# EAGLE library part TUSB320 (library breakouts)
TUSB320 USB Type-C Configuration Channel Logic and Port Control
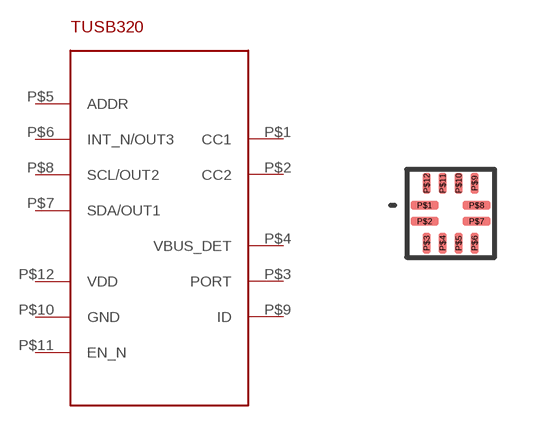
[diagram p2: symbol with the pads of X2QFN; footprint X2QFN]

Designator prefix -

## TUSB320XQFN  [X2QFN]
P$1  CC1
P$2  CC2
P$3  PORT
P$4  VBUS_DET
P$5  ADDR
P$6  INT_N/OUT3
P$7  SDA/OUT1
P$8  SCL/OUT2
P$9  ID
P$10  GND
P$11  EN_N
P$12  VDD

## Footprint X2QFN (pad centres in mm)
smd 0.7 x 0.2: P$1 -0.65,0.2; P$2 -0.65,-0.2; P$7 0.65,-0.2; P$8 0.65,0.2
smd 0.2 x 0.5: P$3 -0.6,-0.75; P$4 -0.2,-0.75; P$5 0.2,-0.75; P$6 0.6,-0.75; P$9 0.6,0.75; P$10 0.2,0.75; P$11 -0.2,0.75; P$12 -0.6,0.75